# Altium schematic symbol library KeyboardSwitchModule.SchLib: 1 symbol
Pins are listed as number, name and electrical type; pins without a type are passive.

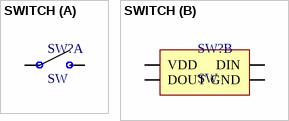
[diagram p0: symbol SWITCH]

## SWITCH
designator SW?, comment SW
footprint KeyboardSwitchModule
part A pins: 1, 2, 7 GND (power) hidden to GND
part B pins: 3 GND, 4 DIN, 5 VDD, 6 DOUT